# Altium footprint library Amp_PCB_lib.PcbLib: 8 footprints
Each footprint in its own frame and in the unit in brackets; x right, y up, seen from the top. Pads: shape width x height; smd on the part's side, far side on the other; paste and mask are expansions set on the pad; w line width, h text height; cw(c..) or ccw(c..) is an arc to the next point about the centre after c.
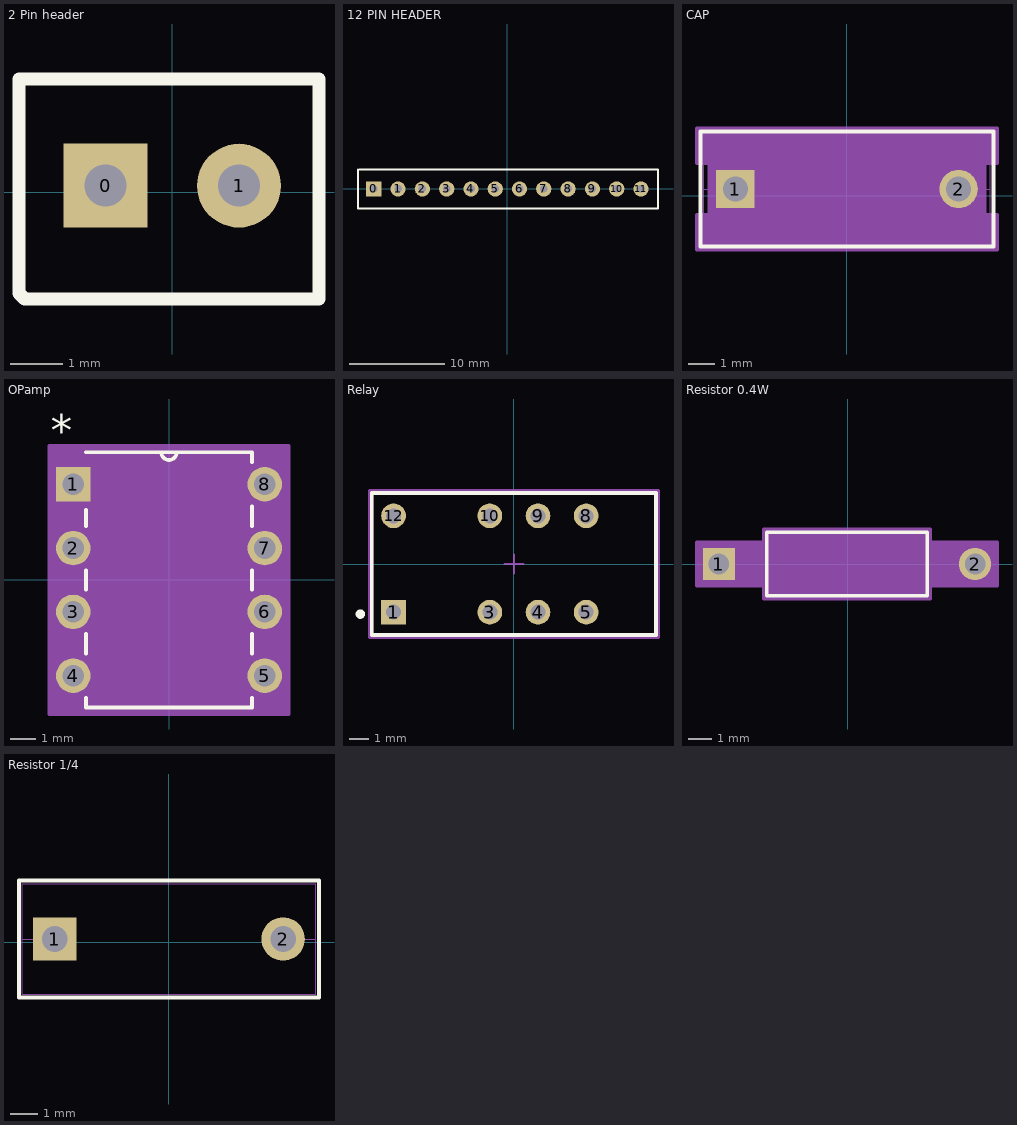
[diagram p0: the footprints below, top view; thin cyan lines are the x and y axes]

## 2 Pin header [mm]
pads (2):
  rect 1.6x1.6 hole 0.8: 0(-1.27,0.127)
  round 1.6 hole 0.8: 1(1.27,0.127)
Top Overlay:
  lines w0.2: -2.921,-1.921 -2.921,2.159
  lines w0.254: -2.921,-1.921 -2.81,-2.032 2.794,-2.032 2.794,2.159 -2.921,2.159 -2.921,-1.921

## 12 PIN HEADER [mm]
pads (12):
  rect 1.6x1.6 hole 0.8: 0(-13.97,0)
  round 1.6 hole 0.8: 1(-11.43,0) 2(-8.89,0) 3(-6.35,0) 4(-3.81,0) 5(-1.27,0) 6(1.27,0) 7(3.81,0) 8(6.35,0) 9(8.89,0) 10(11.43,0) 11(13.97,0)
Top Overlay:
  lines w0.2: -15.621,2.032 -15.621,-2.048 15.748,-2.048 15.748,2.032 -15.494,2.032

## BNC [mil]

## CAP [mil]
pads (2):
  rect 57x57 / inner round 60 / far side rect 57x57 hole 37 paste-99999 mask+0: 1(-165,10)
  round 57 / inner round 60 / far side round 57 hole 37 paste-99999 mask+0: 2(166,10)
Top Overlay:
  lines w6: -217,-75 218,-75 218,95 -217,95 -217,-75
Top 3D Body:
  lines w1: -212,10 -165,10 ; 166,10 213,10 ; -212,-70 213,-70 213,90 -212,90 -212,-70
Top Courtyard:
  region: -222,-28.5 -203.5,-28.5 -203.5,48.5 -222,48.5 -222,100 223,100 223,48.5 204.5,48.5 204.5,-28.5 223,-28.5 223,-80 -222,-80
  lines w6: -222,-80 -222,-28.5 -203.5,-28.5 -203.5,48.5 -222,48.5 -222,100 223,100 223,48.5 204.5,48.5 204.5,-28.5 223,-28.5 223,-80 -222,-80
3D body "RN60_VIS.step": height 159.53, standoff -110, extent -239.02,-69.88 240,89.88

## OPamp [mil]
pads (8):
  rect 54x54 / inner round 60 / far side rect 54x54 hole 34 paste-99999 mask-27: 1(-150,150)
  round 54 / inner round 60 / far side round 54 hole 34 paste-99999 mask-27: 2(-150,50) 3(-150,-50) 4(-150,-150) 5(150,-150) 6(150,-50) 7(150,50) 8(150,150)
Top Overlay:
  lines w6: -130,-184.76 -130,-200 130,-200 130,-184.76 ; -130,-115.24 -130,-84.76 ; -130,-15.24 -130,15.24 ; -130,84.76 -130,109.9 ; -130,200 130,200 130,184.76 ; -12,200 ccw(c0,200) 12,200 ; 130,-115.24 130,-84.76 ; 130,-15.24 130,15.24 ; 130,84.76 130,115.24
  text "*" at -185,210 h50
Top 3D Body:
  lines w0: -12,200 ccw(c0,200) 12,200
  lines w1: -167,-167 -167,-133 -130,-133 -130,-167 -167,-167 ; -167,-67 -167,-33 -130,-33 -130,-67 -167,-67 ; -167,33 -167,67 -130,67 -130,33 -167,33 ; -167,133 -167,167 -130,167 -130,133 -167,133 ; -130,-200 130,-200 130,200 -130,200 -130,-200 ; 130,-167 130,-133 167,-133 167,-167 130,-167 ; 130,-67 130,-33 167,-33 167,-67 130,-67 ; 130,33 130,67 167,67 167,33 130,33 ; 130,133 130,167 167,167 167,133 130,133
  text "*" at -185,210 h50
Top Courtyard:
  region: 187,-210 -187,-210 -187,210 187,210
  lines w6: -187,-210 187,-210 187,210 -187,210 -187,-210
3D body "P8.step": height 205.12, standoff -100, extent -160,-200 160,200

## Relay [mm]
pads (8):
  rect 1.3x1.3 hole 0.8 paste-2539.97 mask+0: 1(-6.35,-2.54)
  round 1.3 hole 0.8 paste-2539.97 mask+0: 3(-1.27,-2.54) 4(1.27,-2.54) 5(3.81,-2.54) 8(3.81,2.54) 9(1.27,2.54) 10(-1.27,2.54) 12(-6.35,2.54)
Top Overlay:
  circle w0.25: c-8.1,-2.64 r0.125
  lines w0.2: -7.5,-3.75 7.5,-3.75 7.5,3.75 -7.5,3.75 -7.5,-3.75
Top 3D Body:
  lines w0.2: -7.5,-3.75 7.5,-3.75 7.5,3.75 -7.5,3.75 -7.5,-3.75
Top Courtyard:
  lines w0.2: -7.6,-3.85 7.6,-3.85 7.6,3.85 -7.6,3.85 -7.6,-3.85
Top Assembly:
  lines w0.2: -7.6,-3.85 7.6,-3.85 7.6,3.85 -7.6,3.85 -7.6,-3.85
  text ".Designator" at 0,0.188 h1
Top Component Center:
  lines w0.1: -0.5,0 0.5,0 ; 0,-0.5 0,0.5
3D body "Relay_KEMET_EC2-3NU_eec.STEP": height 0.25, standoff 0, extent -7.6,-3.85 7.6,3.85

## Resistor 0.4W [mil]
pads (2):
  rect 55x55 / inner round 60 / far side rect 55x55 hole 35 paste-99999 mask+0: 1(-220,0)
  round 55 / inner round 60 / far side round 55 hole 35 paste-99999 mask+0: 2(217.1,0)
Top Overlay:
  lines w6: -138.45,-54 135.55,-54 135.55,54 -138.45,54 -138.45,-54
Top 3D Body:
  lines w1: -220,0 -133.45,0 ; 130.55,0 217.1,0 ; -133.45,-49 130.55,-49 130.55,49 -133.45,49 -133.45,-49
Top Courtyard:
  region: -143.45,-37.5 -257.5,-37.5 -257.5,37.5 -143.45,37.5 -143.45,59 140.55,59 140.55,37.5 254.6,37.5 254.6,-37.5 140.55,-37.5 140.55,-59 -143.45,-59
  lines w6: -257.5,-37.5 -257.5,37.5 -143.45,37.5 -143.45,59 140.55,59 140.55,37.5 254.6,37.5 254.6,-37.5 140.55,-37.5 140.55,-59 -143.45,-59 -143.45,-37.5 -257.5,-37.5
3D body "RES_LR1_TYCO_TYC.step": height 98.02, standoff -100, extent -232.48,-48.64 229.61,48.64

## Resistor 1/4 [mil]
pads (2):
  rect 62.99x62.99 hole 37 paste-99999 mask+0: 1(-165,5)
  round 62.99 hole 37 paste-99999 mask+0: 2(166,5)
Top Overlay:
  lines w6: -217,-80 -217,90 218,90 218,-80 -217,-80
Top 3D Body:
  lines w1: -212,5 -165,5 ; 166,5 213,5 ; -212,-75 -212,85 213,85 213,-75 -212,-75